# EAGLE library part MICRO-SD (library microSD-Connector)
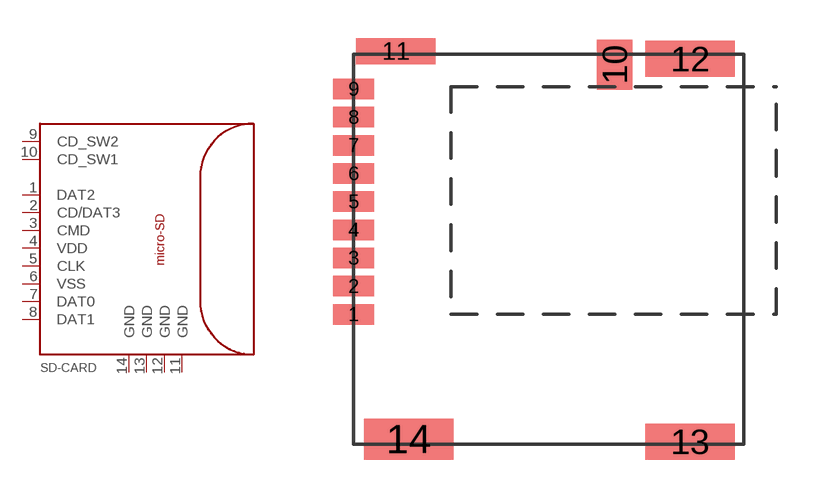
[diagram p0: symbol with the pads of MICRO_SD_FOOTPRINT; footprint MICRO_SD_FOOTPRINT]

Designator prefix SD-CARD

## MICRO-SD  [MICRO_SD_FOOTPRINT]
1  DAT2
2  CD/DAT3
3  CMD
4  VDD
5  CLK
6  VSS
7  DAT0
8  DAT1
9  CD_SW2
10  CD_SW1
11  GND
12  GND
13  GND
14  GND

## Footprint MICRO_SD_FOOTPRINT (pad centres in mm)
smd 1.6 x 0.8: 1 -7.62,-2.54; 2 -7.62,-1.44; 3 -7.62,-0.34; 4 -7.62,0.76; 5 -7.62,1.86; 6 -7.62,2.96; 7 -7.62,4.06; 8 -7.62,5.16; 9 -7.62,6.26
smd 1.4 x 1.95: 10 2.58,7.21
smd 3.1 x 1: 11 -5.97,7.735
smd 3.5 x 1.4: 12 5.53,7.435; 13 5.53,-7.515
smd 3.5 x 1.6: 14 -5.47,-7.415